# Altium footprint library 3PhaseMotorDriver.PcbLib: 53 footprints (part 1 of 4)
Each footprint in its own frame and in the unit in brackets; x right, y up, seen from the top. Pads: shape width x height; smd on the part's side, far side on the other; paste and mask are expansions set on the pad; w line width, h text height; cw(c..) or ccw(c..) is an arc to the next point about the centre after c.
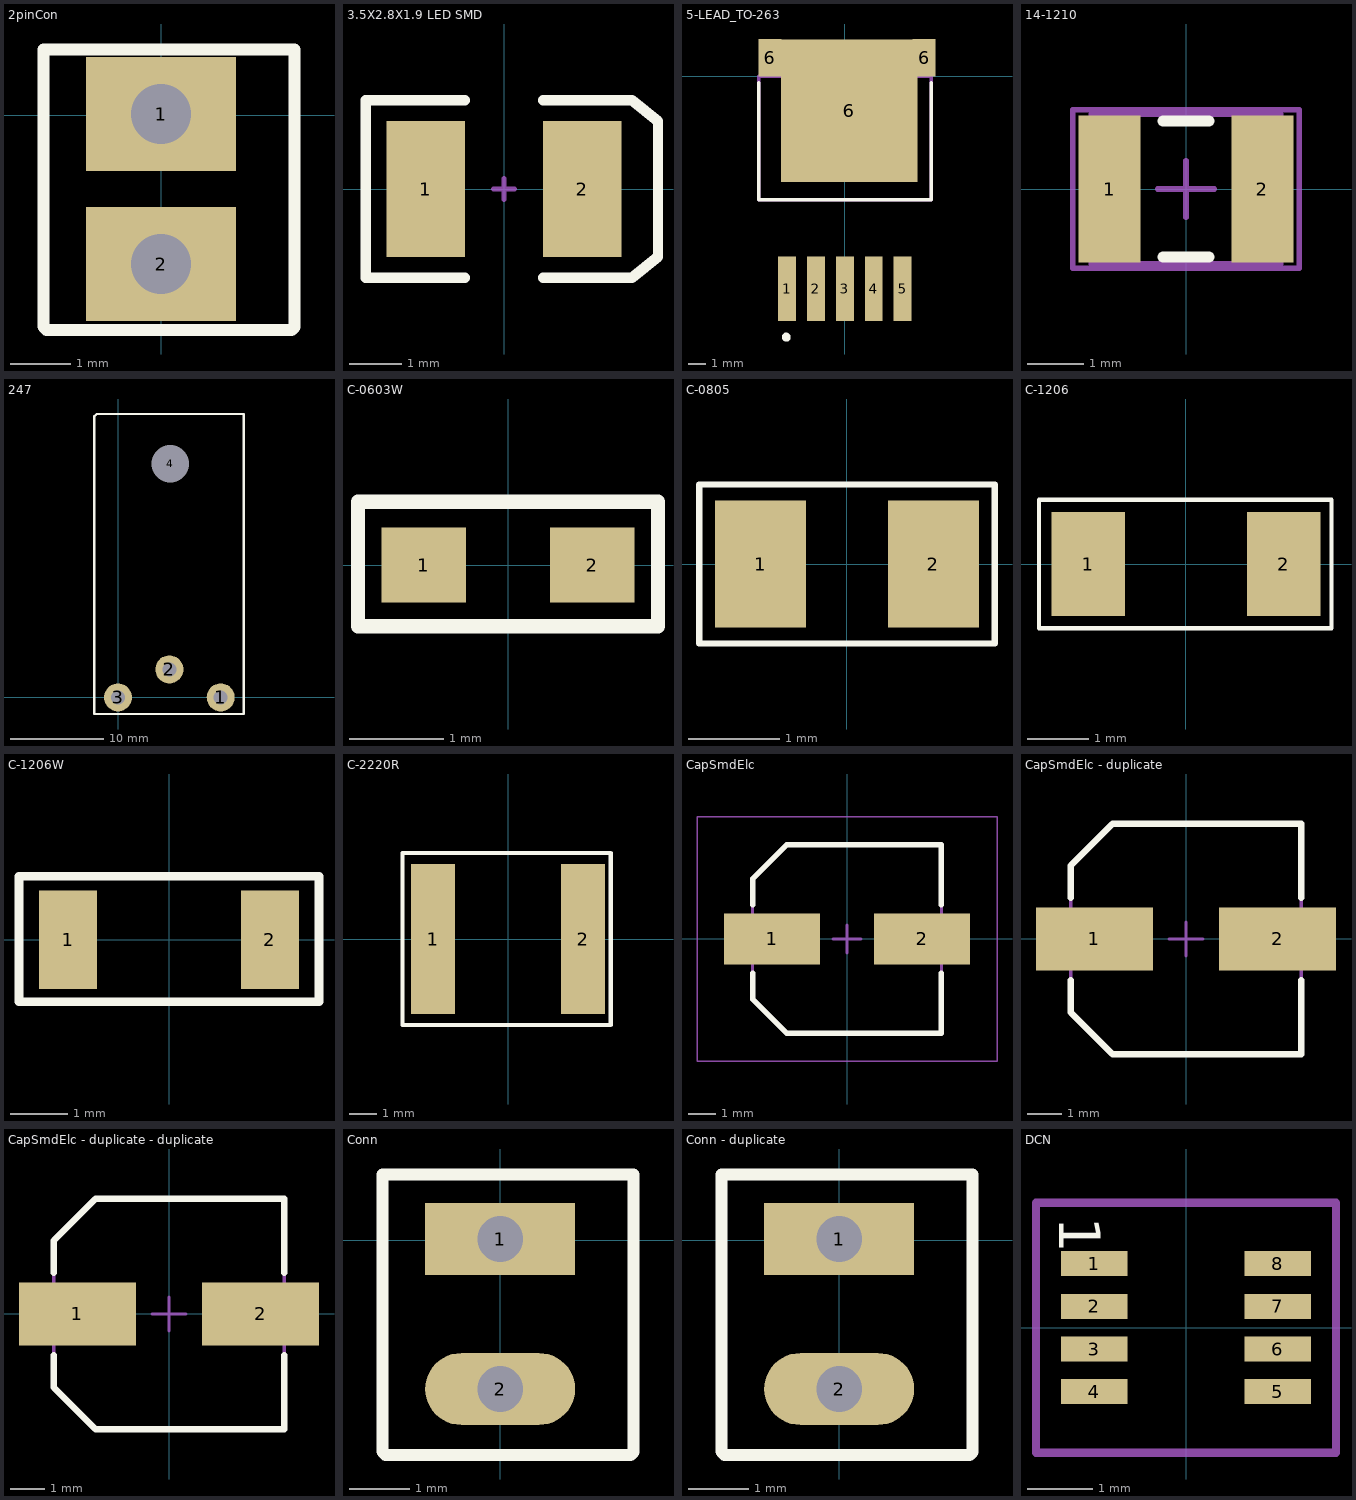
[diagram p0: the footprints below, top view; thin cyan lines are the x and y axes]

## 2pinCon [mm]
pads (2):
  rect 2.5x1.9 hole 1: 1(0,0.025) 2(0,-2.475)
Top Overlay:
  lines w0.2: -1.965,-3.52 -1.91,-3.575 2.175,-3.575 2.225,-3.525 2.225,1.1 -1.965,1.1 -1.965,-3.52
3D body "User Library-Molex - 2-Pin Header with Lock (0_100in pitch).STEP": height 10.68, standoff -3.54, extent -3.302,-3.81 3.048,1.27

## 3.5X2.8X1.9 LED SMD [mm] "SM LED; 2 C-Bend Leads; Body 3.5 x 2.8 x 1.9 mm, inc leads (LxWxH typ)"
height 1.9
pads (2):
  rect 1.5x2.6 smd: 1(-1.5,0) 2(1.5,0)
Top Overlay:
  lines w0.2: -0.75,-1.7 -2.65,-1.7 -2.65,1.7 -0.75,1.7 ; 0.75,-1.7 2.45,-1.7 2.95,-1.3 2.95,1.3 2.45,1.7 0.75,1.7
Mechanical 1:
  lines w0.1: -0.2,0 0.2,0 ; 0,-0.2 0,0.2

## 5-LEAD_TO-263 [mm]
pads (8):
  rect 1.05x3.8 smd: 1(-3.404,-12.5) 2(-1.702,-12.5) 3(0,-12.5) 4(1.702,-12.5) 5(3.404,-12.5)
  rect 1.35x2.2 smd: 6(-4.424,1.106) 6(4.675,1.1)
  rect 8.05x8.4 smd: 6(0.254,-2.032)
Top Overlay:
  circle w0.3: c-3.455,-15.36 r0.113
  lines w0.2: -5.08,-0.379 -5.08,-7.26 5.08,-7.26 5.08,-0.379
Mechanical 13:
  lines w0.2: -5.08,-7.26 5.08,-7.26 5.08,0 -5.08,0 -5.08,-7.26
3D body "LM2596SX-12--3DModel-STEP-56544.STEP": height 4.66, standoff -0.14, extent -5.08,-13.081 5.08,1.27

## 14-1210 [mm] "Chip Resistor, Body 3.2x2.5mm, IPC High Density"
height 0.9
pads (2):
  rect 1.1x2.6 smd: 1(-1.35,0) 2(1.35,0)
Top Overlay:
  lines w0.2: -0.4,-1.2 0.4,-1.2 ; -0.4,1.2 0.4,1.2
Mechanical 13:
  lines w0.1: -1.675,-1.32 -1.675,1.32 1.675,1.32 1.675,-1.32 -1.675,-1.32
Mechanical 15:
  lines w0.1: -0.5,0 0.5,0 ; 0,-0.5 0,0.5 ; -2,-1.4 -2,1.4 2,1.4 2,-1.4 -2,-1.4
3D body: height 0.9, standoff 0, extent -1.675,-1.32 1.675,1.32

## 247 [mm]
pads (4):
  round 3 hole 1.5: 1(11,0) 2(5.5,3) 3(0,0)
  round 1.524 hole 4: 4(5.588,25.019)
Top Overlay:
  circle w0.254: c5.588,25.019 r1.55
  lines w0.254: -2.54,-1.778 0.349,-1.778 13.462,-1.778 13.462,30.353 -2.286,30.353 -2.54,30.099 -2.54,-1.778
3D body "TO-247_horizontal_back_triangle_margin.stp": height 5.01, standoff -3.59, extent -2.286,-0.314 13.314,30.286

## C-0603W [mm] "capacitor 0603 wave soldering"
pads (2):
  rect 0.9x0.8 smd: 1(-0.9,0) 2(0.9,0)
Top Overlay:
  lines w0.152: -1.6,-0.65 0.55,-0.65 1.6,-0.65 1.6,0.675 0.525,0.675 -1.6,0.675 -1.6,-0.65
3D body "CAP0603.stp": height 0.3, standoff 0, extent -0.8,-0.4 0.8,0.4

## C-0805 [mm]
pads (2):
  rect 1x1.4 smd: 1(-0.95,0) 2(0.95,0)
Top Overlay:
  lines w0.07: -1.625,-0.875 -1.625,0.413 -1.625,0.875 1.625,0.875 1.625,-0.875 0.416,-0.875 -0.391,-0.875 -1.625,-0.875
3D body "User Library-CAPC2013X10.STEP": height 1.01, standoff 0.01, extent -1,-0.625 1,0.625

## C-1206 [mm]
pads (2):
  rect 1.2x1.7 smd: 1(-1.6,0) 2(1.6,0)
Top Overlay:
  lines w0.07: -2.4,-1.05 2.375,-1.05 2.375,-0.531 2.375,0.556 2.375,0.692 2.375,1.05 -2.4,1.05 -2.4,-1.05
3D body "User Library-CAPC3216X10.STEP": height 1, standoff 0, extent -1.6,-0.8 1.6,0.8

## C-1206W [mm] "capacitor 1206 wave soldering"
pads (2):
  rect 1x1.7 smd: 1(-1.75,0) 2(1.75,0)
Top Overlay:
  lines w0.152: -2.6,-1.075 -2.6,1.1 2.6,1.1 2.6,-1.075 2.45,-1.075 -2.6,-1.075
3D body "CAP1206.stp": height 1, standoff 0, extent -1.6,-0.8 1.6,0.8

## C-2220R [mm] "capacitor 2220 reflow soldering"
pads (2):
  rect 1.6x5.4 smd: 1(-2.7,0) 2(2.7,0)
Top Overlay:
  lines w0.152: 2.15,-3.1 3.7,-3.1 3.7,3.1 2.15,3.1 ; 2.275,-3.1 -3.8,-3.1 -3.8,3.1 2.525,3.1
3D body "CAP2220.stp": height 2.24, standoff -0.04, extent -2.85,-2.5 2.85,2.5

## CapSmdElc [mm] "Aluminum Electrolytic Capacitor, Body 6.70x6.70x6.30mm, IPC Low Density"
height 6.3
pads (2):
  rect 3.45x1.85 smd: 1(-2.7,0) 2(2.7,0)
Top Overlay:
  lines w0.2: -3.4,-1.225 -3.4,-2.163 -2.163,-3.4 3.4,-3.4 3.4,-1.225 ; -3.4,1.225 -3.4,2.163 -2.163,3.4 3.4,3.4 3.4,1.225
Top Assembly:
  lines w0.1: -3.4,-2.163 -3.4,2.163 -2.163,3.4 3.4,3.4 3.4,-3.4 -2.163,-3.4 -3.4,-2.163
Top Courtyard:
  lines w0.05: -5.4,-4.4 5.4,-4.4 5.4,4.4 -5.4,4.4 -5.4,-4.4
  lines w0.1: -0.5,0 0.5,0 ; 0,-0.5 0,0.5
3D body "User Library-Nichicon_CW6_3x7.STEP": height 6.92, standoff 0.01, extent -3.45,-3.275 3.55,3.325

## CapSmdElc - duplicate [mm] "Aluminum Electrolytic Capacitor, Body 6.70x6.70x6.30mm, IPC Low Density"
height 6.3
pads (2):
  rect 3.45x1.85 smd: 1(-2.7,0) 2(2.7,0)
Top Overlay:
  lines w0.2: -3.4,-1.225 -3.4,-2.163 -2.163,-3.4 3.4,-3.4 3.4,-1.225 ; -3.4,1.225 -3.4,2.163 -2.163,3.4 3.4,3.4 3.4,1.225
Top Assembly:
  lines w0.1: -3.4,-2.163 -3.4,2.163 -2.163,3.4 3.4,3.4 3.4,-3.4 -2.163,-3.4 -3.4,-2.163
Top Courtyard:
  lines w0.1: -0.5,0 0.5,0 ; 0,-0.5 0,0.5
3D body "User Library-Nichicon_CW6_3x7.STEP": height 6.92, standoff 0.01, extent -3.45,-3.275 3.55,3.325

## CapSmdElc - duplicate - duplicate [mm] "Aluminum Electrolytic Capacitor, Body 6.70x6.70x6.30mm, IPC Low Density"
height 6.3
pads (2):
  rect 3.45x1.85 smd: 1(-2.7,0) 2(2.7,0)
Top Overlay:
  lines w0.2: -3.4,-1.225 -3.4,-2.163 -2.163,-3.4 3.4,-3.4 3.4,-1.225 ; -3.4,1.225 -3.4,2.163 -2.163,3.4 3.4,3.4 3.4,1.225
Top Assembly:
  lines w0.1: -3.4,-2.163 -3.4,2.163 -2.163,3.4 3.4,3.4 3.4,-3.4 -2.163,-3.4 -3.4,-2.163
Top Courtyard:
  lines w0.1: -0.5,0 0.5,0 ; 0,-0.5 0,0.5
3D body "User Library-Nichicon_CW6_3x7.STEP": height 6.92, standoff 0.01, extent -3.45,-3.275 3.55,3.325

## Conn [mm]
pads (2):
  rect 2.5x1.2 hole 0.762 square: 1(0,0.025)
  oval 2.5x1.2 hole 0.762 square: 2(0,-2.475)
Top Overlay:
  lines w0.2: -1.965,-3.52 -1.965,1.1 2.225,1.1 2.225,-3.525 2.175,-3.575 -1.91,-3.575 -1.965,-3.52
3D body "User Library-Header1x2.STEP": height 8.15, standoff -2.83, extent -1.24,-3.74 1.3,1.34

## Conn - duplicate [mm]
pads (2):
  rect 2.5x1.2 hole 0.762 square: 1(0,0.025)
  oval 2.5x1.2 hole 0.762 square: 2(0,-2.475)
Top Overlay:
  lines w0.2: -1.965,-3.52 -1.91,-3.575 2.175,-3.575 2.225,-3.525 2.225,1.1 -1.965,1.1 -1.965,-3.52

## DCN [mil]
pads (8):
  rect 40x15 smd: 1(-55,38.4) 2(-55,12.8) 3(-55,-12.8) 4(-55,-38.4) 5(55,-38.4) 6(55,-12.8) 7(55,12.8) 8(55,38.4)
Top Overlay:
  text "1" at -75.94,66.46 h25
Bottom Courtyard:
  lines w5: -90,-75 90,-75 90,75 -90,75 -90,-75
  text ".Designator" at -75,-20 h40
  text "*" at -74.94,66.46 h25